# Altium schematic symbol library Wifi-Vista_NW.SchLib: 6 symbols
Pins are listed as number, name and electrical type; pins without a type are passive.

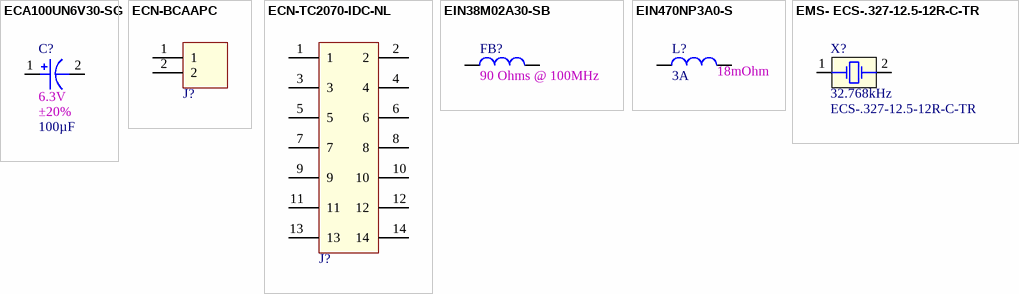
[diagram p0: symbols ECA100UN6V30-SG to EMS- ECS-.327-12.5-12R-C-TR]

## ECA100UN6V30-SG
designator C?, comment value 100µF  1st Auxiliary Field: 6.3V  2nd Auxiliary Field: ±20%  (hidden comment: TAN SMD POLY 3216 100UF 6.3V 20%)
Manufacturer: KEMET; Manufacturer Part Number: T520A107M006ATE025; Internal Part Number: ECA100UN6V30-SG; Vendor Part Number: 399-19156-1-ND; 3rd Auxiliary Field: ROHS3 Compliant; Component Height (mm): 1.6MM; Vendor Name: Digi-Key; Temp Co: -55°C ~ 105°C; Part Type: TAN SMD POLY 3216 100UF 6.3V 20%; 4th Auxiliary Field: *
footprint SMDC1206_TANT
pins: 1 +VE, 2 -VE

## ECN-BCAAPC
designator J?, comment BATTERY HOLDER AA PC PIN  (value not drawn)
Manufacturer: MPD (Memory Protection Devices); Manufacturer Part Number: BCAAPC; Internal Part Number: ECN-BCAAPC; Vendor Part Number: BCAAPC-ND; Vendor Name: Digi-Key; Component Height (mm): 13.25mm; 3rd Auxiliary Field: RoHS Compliant; 1st Auxiliary Field: *; Part Type: BATTERY HOLDER AA PC PIN; Temp Co: *; 2nd Auxiliary Field: *; 4th Auxiliary Field: *; Value: *
footprint BCAAPC
pins: 1, 2

## ECN-TC2070-IDC-NL
designator J?, comment CABLE ASSM 14PIN PLUG  (value not drawn)
Manufacturer: Tag-Connect LLC; Manufacturer Part Number: TC2070-IDC-NL; Internal Part Number: ECN-TC2070-IDC-NL; Vendor Part Number: TC2070-IDC-NL-ND; Vendor Name: Digi-Key; Component Height (mm): 6MM; 3rd Auxiliary Field: RoHS Compliant; 1st Auxiliary Field: *; Part Type: CABLE ASSM 14PIN PLUG; Temp Co: *; 2nd Auxiliary Field: *; 4th Auxiliary Field: *; Value: *
footprint PROGRAM_TC2070-CLIP
pins: 1, 2, 3, 4, 5, 6, 7, 8, 9, 10, 11, 12, 13, 14

## EIN38M02A30-SB
designator FB?, comment 2nd Auxiliary Field: 90 Ohms @ 100MHz  (hidden comment: FERRITE BEAD 90 OHM 0402 1LN)
Manufacturer Part Number: MPZ1005S900HT000; Manufacturer: TDK Corporation; Internal Part Number: EIN38M02A30-SB; Vendor Part Number: 445-174932-1-ND; 3rd Auxiliary Field: RoHS3 Compliant; Component Height (mm): 0.55mm; Temp Co: -55°C ~ 125°C; Vendor Name: Digi-Key; 1st Auxiliary Field: 2.3A; Value: 38mOhm; Part Type: FERRITE BEAD 90 OHM 0402 1LN; 4th Auxiliary Field: *
footprint SMDL0402
pins: 1, 2

## EIN470NP3A0-S
designator L?, comment 2nd Auxiliary Field: 3A  1st Auxiliary Field: 18mOhm  (hidden comment: FIXED IND 470NH 3A 18 MOHM SMD)
Manufacturer: Würth Elektronik; Internal Part Number: EIN470NP3A0-S; Manufacturer Part Number: 744040320047; Vendor Part Number: 732-5490-1-ND; 3rd Auxiliary Field: ROHS3 Compliant; Component Height (mm): 1.50mm; Vendor Name: Digi-Key; Temp Co: -40°C ~ 125°C; Part Type: FIXED IND 470NH 3A 18 MOHM SMD; 4th Auxiliary Field: *; Value: 470nH
footprint INDP3025X15N (Precision Wire Wound Inductor, 2-Leads, Body 3.00x2.50mm, IPC Medium Density)
pins: 1, 2
1 alternate drawing of the same symbol

## EMS- ECS-.327-12.5-12R-C-TR
designator X?, comment value ECS-.327-12.5-12R-C-TR  1st Auxiliary Field: 32.768kHz  (hidden comment: CRYSTAL 32.7680KHZ 12.5PF SMD)
Internal Part Number: EMS- ECS-.327-12.5-12R-C-TR; Manufacturer: ECS Inc.; Vendor Part Number: XC2738CT-ND; 2nd Auxiliary Field: ±10ppm; 3rd Auxiliary Field: RoHS Compliant; Component Height (mm): 0.60mm; Temp Co: -40°C ~ 85°C; Vendor Name: Digi-Key; 4th Auxiliary Field: *; Part Type: CRYSTAL 32.7680KHZ 12.5PF SMD; Manufacturer Part Number: ECS-.327-12.5-12R-C-TR
footprint XTAL200X120X060
pins: 1, 2 (power)